# Altium schematic symbol library I2C_Shield.SchLib: 21 symbols
Pins are listed as number, name and electrical type; pins without a type are passive.

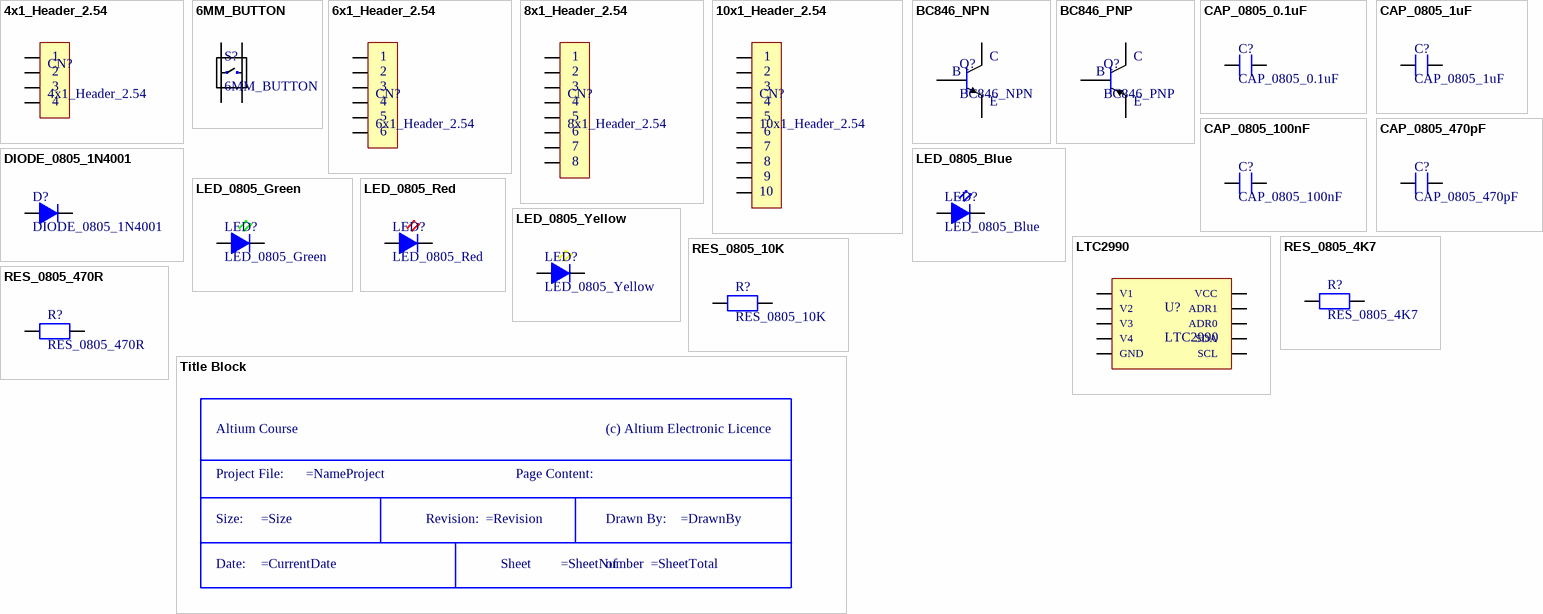
[diagram p0: symbols 4x1_Header_2.54 to Title Block]

## 4x1_Header_2.54
designator CN?
Oled Screen Header
pins: 1, 2, 3, 4

## 6MM_BUTTON
designator S?
SWITCH TACT 6x6MM; Manufacturer: DS1042-03-116-KKR-250-10; Voltage Rating: 12V; Current: 50mA; Package Size: 6mmx6mm
footprint 6MM_TACTILE_SWITCH
pins: 1, 2, 3, 4

## 6x1_Header_2.54
designator CN?
footprint 6x1_2.54MM_HEADER
pins: 1, 2, 3, 4, 5, 6

## 8x1_Header_2.54
designator CN?
footprint 8x1_2.54MM_HEADER
pins: 1, 2, 3, 4, 5, 6, 7, 8

## 10x1_Header_2.54
designator CN?
footprint 10x1_2.54MM_HEADER
pins: 1, 2, 3, 4, 5, 6, 7, 8, 9, 10

## BC846_NPN
designator Q?
100mA 65V NPN SOT23 GEN. SMT; Manufacturer: BC846B-HT; Voltage Rating: 65V; Package Size: SOT23; Current: 100mA
pins: 1, 2, 3
text: C; B; E

## BC846_PNP
designator Q?
100mA 65V PNP SOT23 GEN. SMT; Manufacturer: BC856B,215; Voltage Rating: 65V; Package Size: SOT23; Current: 100mA
pins: 1, 2, 3
text: C; B; E

## CAP_0805_0.1uF
designator C?
0805 0.1uF 16VDC ±10% X7R; Manufacturer: CC0805KRX7R7BB104; Voltage Rating: 16V; Tolerance: 10%; Package Size: 0805; Dielectric: X7R
footprint CAP_0805 (Chip Capacitor, 2-Leads, Body 2,00x1,25mm, IPC Medium Density)
pins: 1, 2

## CAP_0805_1uF
designator C?
0805 1uF 16VDC ±10% X7R; Manufacturer: CC0805KRX7R7BB104; Voltage Rating: 16V; Tolerance: 10%; Package Size: 0805; Dielectric: X7R
footprint CAP_0805 (Chip Capacitor, 2-Leads, Body 2,00x1,25mm, IPC Medium Density)
pins: 1, 2

## CAP_0805_100nF
designator C?
0805 100nF 16VDC ±10% X7R; Manufacturer: CC0805KRX7R7BB104; Voltage Rating: 16V; Tolerance: 10%; Package Size: 0805; Dielectric: X7R
footprint CAP_0805 (Chip Capacitor, 2-Leads, Body 2,00x1,25mm, IPC Medium Density)
pins: 1, 2

## CAP_0805_470pF
designator C?
0805 470pF 16VDC ±10% X7R; Manufacturer: CC0805KRX7R7BB104; Voltage Rating: 16V; Tolerance: 10%; Package Size: 0805; Dielectric: X7R
footprint CAP_0805 (Chip Capacitor, 2-Leads, Body 2,00x1,25mm, IPC Medium Density)
pins: 1, 2

## DIODE_0805_1N4001
designator D?
Single 1A 50V THT DO41; Manufacturer: 1N4001-DC; Voltage Rating: 50V; Current: 1A; Package Size: DO41
pins: 1, 2

## LED_0805_Blue
designator LED?
LED SMD 0805 BLUE 550mcd; Manufacturer: HL-PSC-2012H203BC; Voltage Rating: 2.6V; Current: 20mA; Package Size: 0805
footprint LED_0805
pins: A, C

## LED_0805_Green
designator LED?
LED SMD 0805 GREEN 550mcd; Manufacturer: HL-PSC-2012U51GC; Voltage Rating: 2.6V; Current: 20mA; Package Size: 0805
footprint LED_0805
pins: A, C

## LED_0805_Red
designator LED?
LED SMD 0805 RED 550mcd; Manufacturer: HL-PSC-2012S9AC; Voltage Rating: 2.6V; Current: 20mA; Package Size: 0805
footprint LED_0805
pins: A, C

## LED_0805_Yellow
designator LED?
LED SMD 0805 YELLOW 550mcd; Manufacturer: HL-PSC-2012S29YC; Voltage Rating: 2.6V; Current: 20mA; Package Size: 0805
footprint LED_0805
pins: A, C

## LTC2990
designator U?
Quad I2C Voltage, Current / and Temperature Monitor
pins: 1, 2, 3, 4, 5, 6, 7, 8, 9, 10
text: V1; VCC; V2; ADR1; V3; ADR0; V4; SDA; GND; SCL

## RES_0805_4K7
designator R?
0805 4K7 Ohms 5% 1/8W; Manufacturer: RC0805JR-0710KL; Voltage Rating: 150V; Tolerance: 5%; Package Size: 0805
footprint RES_0805 (Chip Resistor, 2-Leads, Body 2,00x1,25mm, IPC Medium Density)
pins: 1, 2

## RES_0805_10K
designator R?
0805 10K Ohms 5% 1/8W; Manufacturer: RC0805JR-0710KL; Voltage Rating: 150V; Tolerance: 5%; Package Size: 0805
footprint RES_0805 (Chip Resistor, 2-Leads, Body 2,00x1,25mm, IPC Medium Density)
pins: 1, 2

## RES_0805_470R
designator R?
0805 470 Ohms 5% 1/8W; Manufacturer: RC0805JR-07470RL; Voltage Rating: 150V; Tolerance: 5%; Package: 0805
footprint RES_0805 (Chip Resistor, 2-Leads, Body 2,00x1,25mm, IPC Medium Density)
pins: 1, 2

## Title Block
designator *  (value not drawn)  (graphical)
text: Altium Course; (c) Altium Electronic Licence; Project File:; Page Content:; Size:; Revision:; Drawn By:; Date:; Sheet; of